# EAGLE library part ATX-1.X (library jt-pc)
20-pin ATX power supply
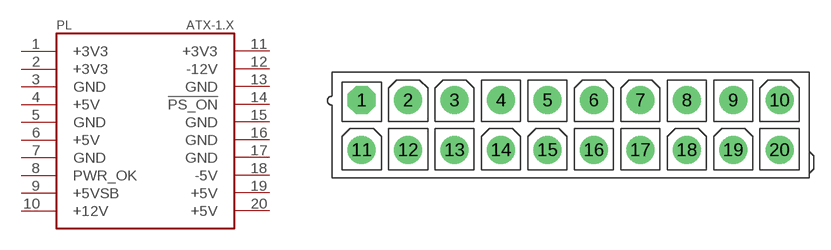
[diagram p0: symbol with the pads of MOLEX-39-29-0203; footprint MOLEX-39-29-0203]

Designator prefix PL

## ATX-1.X  [MOLEX-39-29-0203]
1  +3V3
2  +3V3
3  GND
4  +5V
5  GND
6  +5V
7  GND
8  PWR_OK
9  +5VSB
10  +12V
11  +3V3
12  -12V
13  GND
14  !PS_ON
15  GND
16  GND
17  GND
18  -5V
19  +5V
20  +5V

## Footprint MOLEX-39-29-0203 (pad centres in mm)
Molex 39-29-0203 (20-pin ATX supply)
drill 1.4 pad 2.54 octagon: 1 -18.9,2.25
drill 1.4 pad 2.54 round: 2 -14.7,2.25; 3 -10.5,2.25; 4 -6.3,2.25; 5 -2.1,2.25; 6 2.1,2.25; 7 6.3,2.25; 8 10.5,2.25; 9 14.7,2.25; 10 18.9,2.25; 11 -18.9,-2.25; 12 -14.7,-2.25; 13 -10.5,-2.25; 14 -6.3,-2.25; 15 -2.1,-2.25; 16 2.1,-2.25; 17 6.3,-2.25; 18 10.5,-2.25; 19 14.7,-2.25; 20 18.9,-2.25